# Altium schematic symbol library jack_dc.SchLib: 1 symbol
Pins are listed as number, name and electrical type; pins without a type are passive.

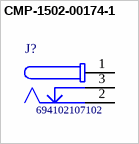
[diagram p0: symbol CMP-1502-00174-1]

## CMP-1502-00174-1
designator J?, comment 694102107102
DC Power Jack Connector Low Profile with 4 soldering pads & Pegs WR-DC, Male, Right Angled, SMT, 5 A, 18 V; Manufacturer: Wurth Elektronik; Working Voltage: 18V; Rated Current: 5A; Plug Outer Diameter: 3.5mm; Plug Inner Diameter: 1.05mm; Opening Diameter: 3.9mm; Manufacturer URL: http://www.we-online.de; Publisher: WurthElektronik; Gender: Male; Mounting Technology: SMT; Packaging: TapeandReel; Package Reference: 694102107102; Part Number: 694102107102; Operating Temperature: -40to85degC; Datasheet URL: http://katalog.we-online.de/em/datasheet/6941xx107102.pdf; Orientation: RightAngled
footprint 694102107102 (DC Power Jack Right Angled Low Profile SMT ?3.9 with 4 soldering pads & pegs)
pins: 1, 2, 3